# EAGLE library part EP8700-DS1000 (library a3640_edu_v0.1)
5-TAP DELAY LINE (U103)
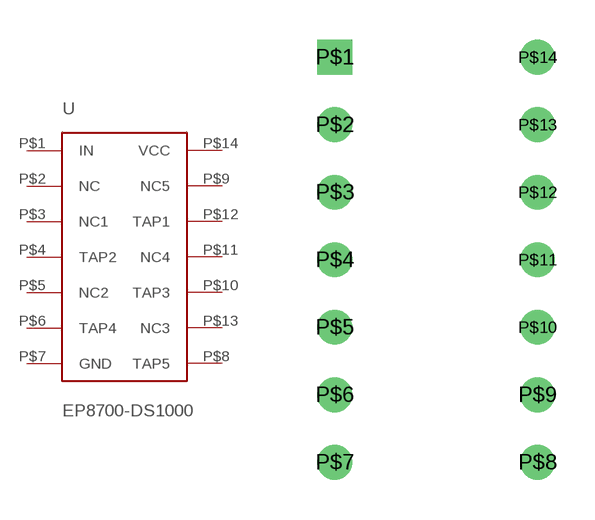
[diagram p13: symbol with the pads of EP8700-DS1000; footprint EP8700-DS1000]

Designator prefix -

## EP8700-DS1000  [EP8700-DS1000]
P$1  IN
P$2  NC
P$3  NC1
P$4  TAP2
P$5  NC2
P$6  TAP4
P$7  GND
P$8  TAP5
P$9  NC5
P$10  TAP3
P$11  NC4
P$12  TAP1
P$13  NC3
P$14  VCC

## Footprint EP8700-DS1000 (pad centres in mm)
drill 0.8 square: P$1 -3.81,6.35
drill 0.8: P$2 -3.81,3.81; P$3 -3.81,1.27; P$4 -3.81,-1.27; P$5 -3.81,-3.81; P$6 -3.81,-6.35; P$7 -3.81,-8.89; P$8 3.81,-8.89; P$9 3.81,-6.35; P$10 3.81,-3.81; P$11 3.81,-1.27; P$12 3.81,1.27; P$13 3.81,3.81; P$14 3.81,6.35